# EAGLE library part SN74AVC4T774 (library Particle)
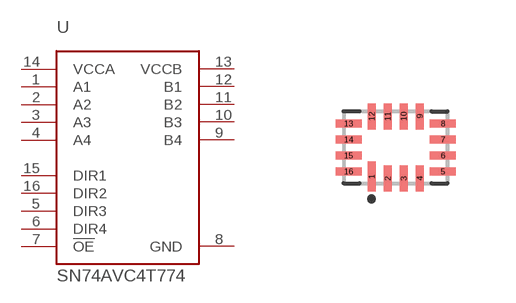
[diagram p38: symbol with the pads of UFQFN-16; footprint UFQFN-16]

Designator prefix U

## SN74AVC4T774  [UFQFN-16]
1  A1
2  A2
3  A3
4  A4
5  DIR3
6  DIR4
7  !OE
8  GND  pwr
9  B4
10  B3
11  B2
12  B1
13  VCCB  pwr
14  VCCA  pwr
15  DIR1
16  DIR2

## Footprint UFQFN-16 (pad centres in mm)
UFQFN-16
smd 0.2 x 0.75: 1 -0.6,-0.73
smd 0.2 x 0.65: 2 -0.2,-0.78; 3 0.2,-0.78; 4 0.6,-0.78; 9 0.6,0.78; 10 0.2,0.78; 11 -0.2,0.78; 12 -0.6,0.78
smd 0.65 x 0.2: 5 1.18,-0.6; 6 1.18,-0.2; 7 1.18,0.2; 8 1.18,0.6; 13 -1.18,0.6; 14 -1.18,0.2; 15 -1.18,-0.2; 16 -1.18,-0.6